# Altium schematic symbol library charge_hub_V1.SchLib: 5 symbols
Pins are listed as number, name and electrical type; pins without a type are passive.

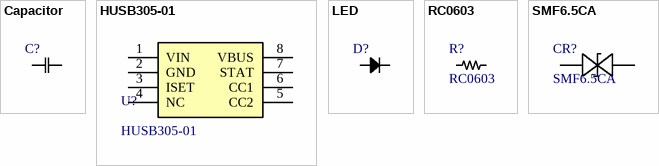
[diagram p0: symbols Capacitor to SMF6.5CA]

## Capacitor
designator C?
Manufacturer_Name: Yageo; Manufacturer_Part_Number: RC0603FR-0747KL; Copyright: Copyright (C) 2025 Ultra Librarian. All rights reserved.
footprint RC0603N_YAG
pins: 1, 2

## HUSB305-01
designator U?
pins: 1 VIN, 2 GND, 3 ISET, 4 NC, 5 CC2, 6 CC1, 7 STAT, 8 VBUS

## LED
designator D?
Manufacturer_Name: Yageo; Manufacturer_Part_Number: RC0603FR-0747KL; Copyright: Copyright (C) 2025 Ultra Librarian. All rights reserved.
footprint XL-1608UVC-04
pins: 1, 2

## RC0603
designator R?
RES SMD 47K OHM 1% 1/10W 0603; Manufacturer_Name: Yageo; Manufacturer_Part_Number: RC0603FR-0747KL; Copyright: Copyright (C) 2025 Ultra Librarian. All rights reserved.
footprint RC0603N_YAG
pins: 1, 2

## SMF6.5CA
designator CR?
Description; Manufacturer_Name: Littelfuse Inc; Copyright: Copyright (C) 2026 Ultra Librarian. All rights reserved.; Manufacturer_Part_Number: SMF6.5CA
footprint SOD-123F_LTF
pins: 1, 2